# EAGLE library part LM25011 (library PowerIC_spark)
The LM25011 constant on-time step-down switching regulator features all the functions needed to implement a low-cost, efficient, buck bias regulator capable of supplying up to 2 A of load current. This high-voltage regulator contains an N-Channel Buck switch, a startup regulator, current limit detection, and internal ripple control.
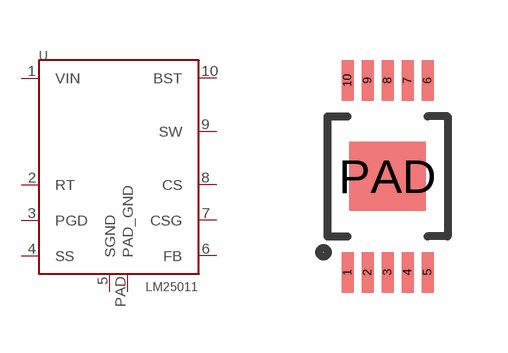
[diagram p40: symbol with the pads of HVSS0P-10; footprint HVSS0P-10]

Designator prefix U

## LM25011 (PROD_ID: IC-12528)  [HVSS0P-10]
1  VIN
2  RT
3  PGD
4  SS
5  SGND
6  FB
7  CSG
8  CS
9  SW
10  BST
PAD  PAD_GND

## Footprint HVSS0P-10 (pad centres in mm)
smd 0.3 x 1.02: 1 -1,-2.4; 2 -0.5,-2.4; 3 0,-2.4; 4 0.5,-2.4; 5 1,-2.4; 6 1,2.4; 7 0.5,2.4; 8 0,2.4; 9 -0.5,2.4; 10 -1,2.4
smd 1.905 x 1.727: PAD 0,0